# EAGLE library part LM139_COMPARATOR (library ecad(1))
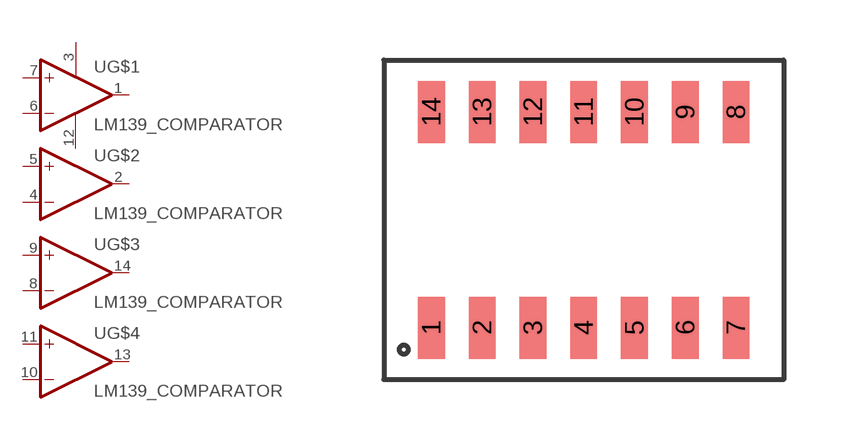
[diagram p0: symbol with the pads of QUAD_DIFFERENTIAL_COMPARATORS; footprint QUAD_DIFFERENTIAL_COMPARATORS]

Designator prefix U; gates G$1=14_PIN_COMPARATOR G$2=14_PIN_COMPARATOR G$3=14_PIN_COMPARATOR G$4=14_PIN_COMPARATOR G$5=PWR+-

## LM139_COMPARATOR  [QUAD_DIFFERENTIAL_COMPARATORS]
1  G$1:OUT  out
2  G$2:OUT  out
3  G$5:V+  pwr
4  G$2:-IN  in
5  G$2:+IN  in
6  G$1:-IN  in
7  G$1:+IN  in
8  G$3:-IN  in
9  G$3:+IN  in
10  G$4:-IN  in
11  G$4:+IN  in
12  G$5:V-  pwr
13  G$4:OUT  out
14  G$3:OUT  out

## Footprint QUAD_DIFFERENTIAL_COMPARATORS (pad centres in mm)
smd 0.67 x 1.55: 1 -3.81,-2.7; 2 -2.54,-2.7; 3 -1.27,-2.7; 4 0,-2.7; 5 1.27,-2.7; 6 2.54,-2.7; 7 3.81,-2.7; 8 3.81,2.7; 9 2.54,2.7; 10 1.27,2.7; 11 0,2.7; 12 -1.27,2.7; 13 -2.54,2.7; 14 -3.81,2.7